# Altium footprint library ST-Microelectronics Footprints.PcbLib: 320 footprints (part 3 of 20)
Each footprint in its own frame and in the unit in brackets; x right, y up, seen from the top. Pads: shape width x height; smd on the part's side, far side on the other; paste and mask are expansions set on the pad; w line width, h text height; cw(c..) or ccw(c..) is an arc to the next point about the centre after c.
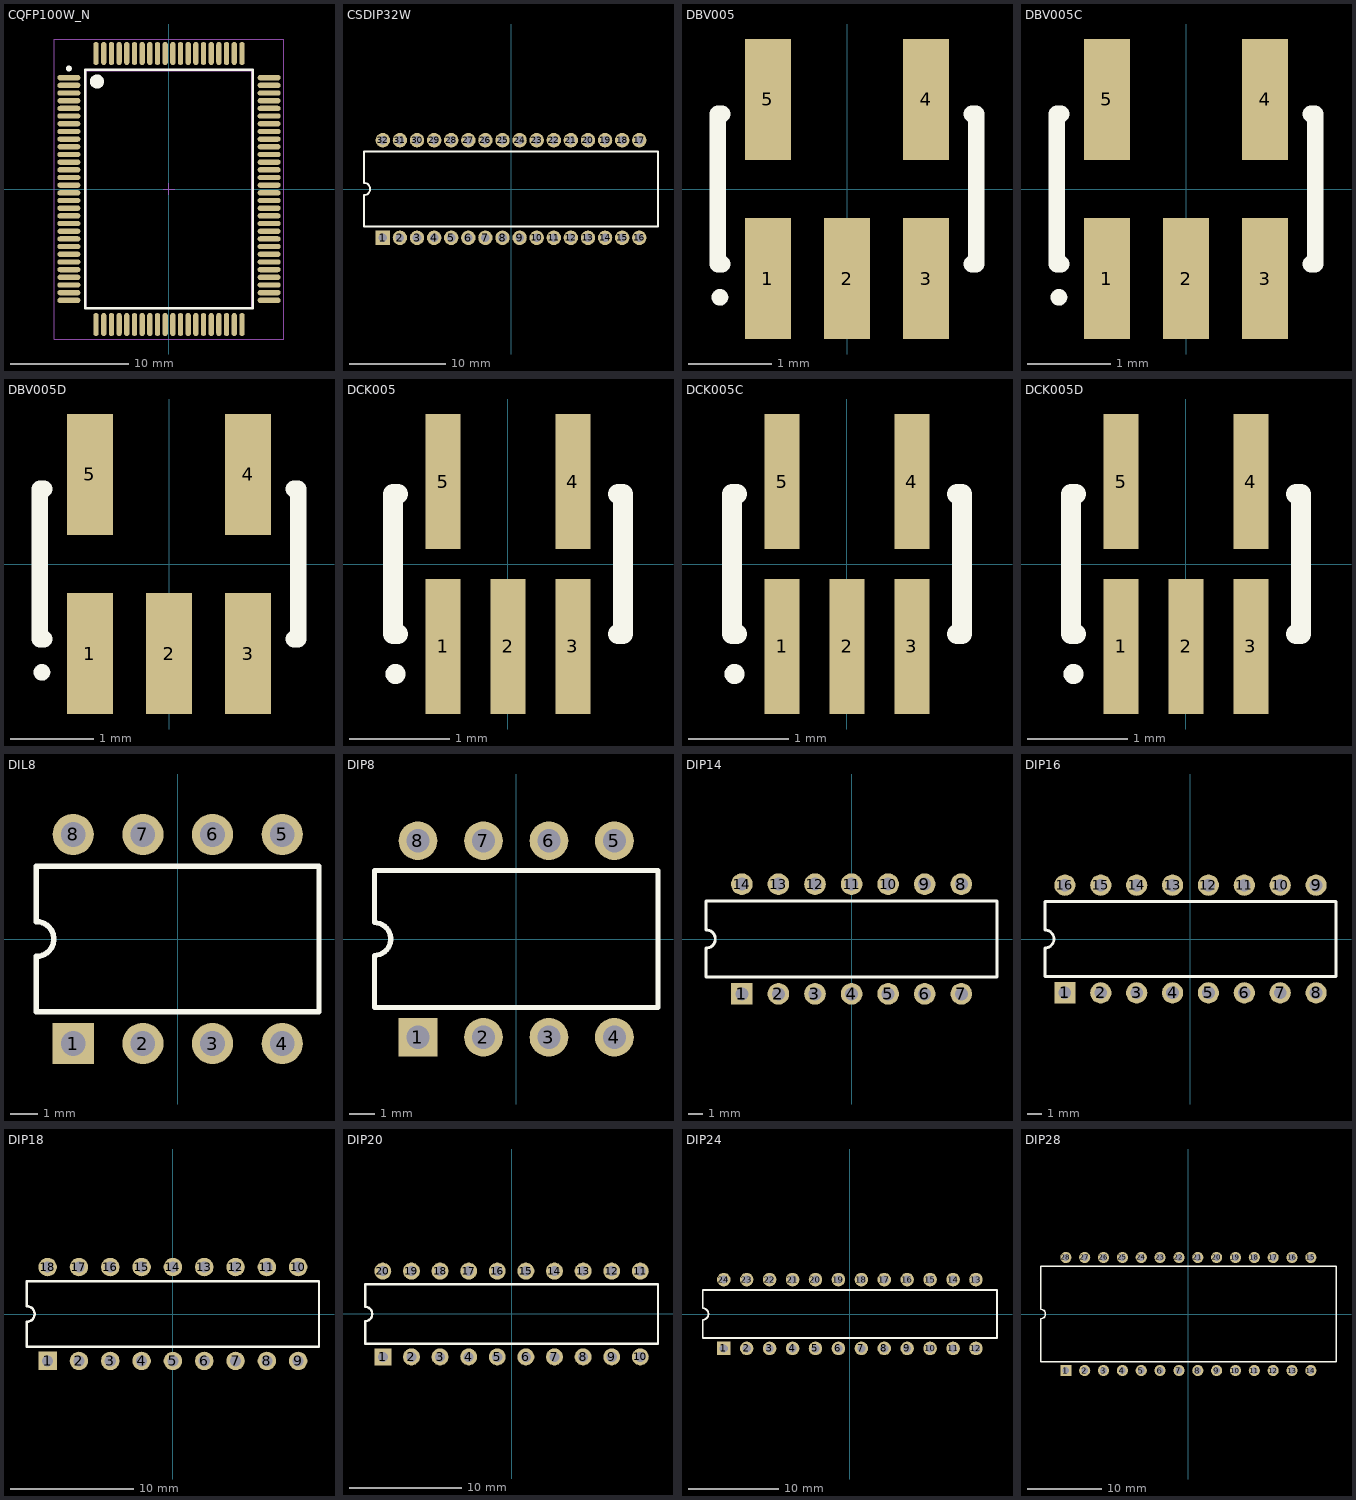
[diagram p2: the footprints below, top view; thin cyan lines are the x and y axes]

## CQFP100W_N [mm] "100-Pin Ceramic Quad Flat Pack Rectangular 0.65 mm Pitch, IPC Medium Density"
height 3.24
pads (100):
  oval 1.95x0.45 smd: 1(-8.475,9.425) 2(-8.475,8.775) 3(-8.475,8.125) 4(-8.475,7.475) 5(-8.475,6.825) 6(-8.475,6.175) 7(-8.475,5.525) 8(-8.475,4.875) 9(-8.475,4.225) 10(-8.475,3.575) 11(-8.475,2.925) 12(-8.475,2.275) 13(-8.475,1.625) 14(-8.475,0.975) 15(-8.475,0.325) 16(-8.475,-0.325) 17(-8.475,-0.975) 18(-8.475,-1.625) 19(-8.475,-2.275) 20(-8.475,-2.925) 21(-8.475,-3.575) 22(-8.475,-4.225) 23(-8.475,-4.875) 24(-8.475,-5.525) 25(-8.475,-6.175) 26(-8.475,-6.825) 27(-8.475,-7.475) 28(-8.475,-8.125) 29(-8.475,-8.775) 30(-8.475,-9.425) 51(8.475,-9.425) 52(8.475,-8.775) 53(8.475,-8.125) 54(8.475,-7.475) 55(8.475,-6.825) 56(8.475,-6.175) 57(8.475,-5.525) 58(8.475,-4.875) 59(8.475,-4.225) 60(8.475,-3.575) 61(8.475,-2.925) 62(8.475,-2.275) 63(8.475,-1.625) 64(8.475,-0.975) 65(8.475,-0.325) 66(8.475,0.325) 67(8.475,0.975) 68(8.475,1.625) 69(8.475,2.275) 70(8.475,2.925) 71(8.475,3.575) 72(8.475,4.225) 73(8.475,4.875) 74(8.475,5.525) 75(8.475,6.175) 76(8.475,6.825) 77(8.475,7.475) 78(8.475,8.125) 79(8.475,8.775) 80(8.475,9.425)
  oval 0.45x1.95 smd: 31(-6.175,-11.475) 32(-5.525,-11.475) 33(-4.875,-11.475) 34(-4.225,-11.475) 35(-3.575,-11.475) 36(-2.925,-11.475) 37(-2.275,-11.475) 38(-1.625,-11.475) 39(-0.975,-11.475) 40(-0.325,-11.475) 41(0.325,-11.475) 42(0.975,-11.475) 43(1.625,-11.475) 44(2.275,-11.475) 45(2.925,-11.475) 46(3.575,-11.475) 47(4.225,-11.475) 48(4.875,-11.475) 49(5.525,-11.475) 50(6.175,-11.475) 81(6.175,11.475) 82(5.525,11.475) 83(4.875,11.475) 84(4.225,11.475) 85(3.575,11.475) 86(2.925,11.475) 87(2.275,11.475) 88(1.625,11.475) 89(0.975,11.475) 90(0.325,11.475) 91(-0.325,11.475) 92(-0.975,11.475) 93(-1.625,11.475) 94(-2.275,11.475) 95(-2.925,11.475) 96(-3.575,11.475) 97(-4.225,11.475) 98(-4.875,11.475) 99(-5.525,11.475) 100(-6.175,11.475)
Top Overlay:
  circle w0.25: c-8.475,10.2 r0.125
  circle w0.6: c-6.1,9.1 r0.3
  lines w0.2: -7.1,-10.1 -7.1,10.1 7.1,10.1 7.1,-10.1 -7.1,-10.1
Mechanical 13:
  circle w0.1: c-6.1,9.1 r0.5
  lines w0.1: -7,-10 -7,10 7,10 7,-10 -7,-10
Mechanical 15:
  lines w0.1: -0.5,0 0.5,0 ; 0,-0.5 0,0.5 ; -9.7,-12.7 -9.7,12.7 9.7,12.7 9.7,-12.7 -9.7,-12.7
3D body: height 3.24, standoff 0, extent -7,-10 7,10

## CSDIP32W [mm] "DIP, Ceramic, Shrink; 32 Leads; Row Spacing 10.16 mm; Pitch 1.78 mm"
height 4.75
pads (32):
  rect 1.5x1.5 hole 0.9: 1(-13.35,-5.08)
  round 1.5 hole 0.9: 2(-11.57,-5.08) 3(-9.79,-5.08) 4(-8.01,-5.08) 5(-6.23,-5.08) 6(-4.45,-5.08) 7(-2.67,-5.08) 8(-0.89,-5.08) 9(0.89,-5.08) 10(2.67,-5.08) 11(4.45,-5.08) 12(6.23,-5.08) 13(8.01,-5.08) 14(9.79,-5.08) 15(11.57,-5.08) 16(13.35,-5.08) 17(13.35,5.08) 18(11.57,5.08) 19(9.79,5.08) 20(8.01,5.08) 21(6.23,5.08) 22(4.45,5.08) 23(2.67,5.08) 24(0.89,5.08) 25(-0.89,5.08) 26(-2.67,5.08) 27(-4.45,5.08) 28(-6.23,5.08) 29(-8.01,5.08) 30(-9.79,5.08) 31(-11.57,5.08) 32(-13.35,5.08)
Top Overlay:
  lines w0.2: -15.3,-3.9 -15.3,-0.635 ccw(c-15.3,0) -15.3,0.635 -15.3,3.9 15.3,3.9 15.3,-3.9 -15.3,-3.9

## DBV005 [mm] "SOT-23/SC-74A; 5 Leads; Body 3 x 3 mm, inc. leads (LxW max)"
height 1.45
pads (5):
  rect 0.55x1.45 smd: 1(-0.95,-1.075) 2(0,-1.075) 3(0.95,-1.075) 4(0.95,1.075) 5(-0.95,1.075)
Top Overlay:
  circle w0.1: c-1.525,-1.3 r0.05
  lines w0.2: -1.5,-0.9 -1.55,-0.9 -1.55,0.9 -1.5,0.9 ; 1.5,-0.9 1.55,-0.9 1.55,0.9 1.5,0.9

## DBV005C [mm] "SOT-23/SC-74A; 5 Leads; Body 3 x 3 mm, inc. leads (LxW max)"
height 1.45
pads (5):
  rect 0.55x1.45 smd: 1(-0.95,-1.075) 2(0,-1.075) 3(0.95,-1.075) 4(0.95,1.075) 5(-0.95,1.075)
Top Overlay:
  circle w0.1: c-1.525,-1.3 r0.05
  lines w0.2: -1.5,-0.9 -1.55,-0.9 -1.55,0.9 -1.5,0.9 ; 1.5,-0.9 1.55,-0.9 1.55,0.9 1.5,0.9

## DBV005D [mm] "SOT-23/SC-74A; 5 Leads; Body 3 x 3 mm, inc. leads (LxW max)"
height 1.45
pads (5):
  rect 0.55x1.45 smd: 1(-0.95,-1.075) 2(0,-1.075) 3(0.95,-1.075) 4(0.95,1.075) 5(-0.95,1.075)
Top Overlay:
  circle w0.1: c-1.525,-1.3 r0.05
  lines w0.2: -1.5,-0.9 -1.55,-0.9 -1.55,0.9 -1.5,0.9 ; 1.5,-0.9 1.55,-0.9 1.55,0.9 1.5,0.9

## DCK005 [mm] "SOT-353/SC-88A; 5 Leads; Body 2.2 x 2.3 mm, inc. leads (LxW max)"
height 1.1
pads (5):
  rect 0.35x1.35 smd: 1(-0.65,-0.825) 2(0,-0.825) 3(0.65,-0.825) 4(0.65,0.825) 5(-0.65,0.825)
Top Overlay:
  circle w0.1: c-1.125,-1.1 r0.05
  lines w0.2: -1.1,-0.7 -1.15,-0.7 -1.15,0.7 -1.1,0.7 ; 1.1,-0.7 1.15,-0.7 1.15,0.7 1.1,0.7

## DCK005C [mm] "SOT-353/SC-88A; 5 Leads; Body 2.2 x 2.3 mm, inc. leads (LxW max)"
height 1.1
pads (5):
  rect 0.35x1.35 smd: 1(-0.65,-0.825) 2(0,-0.825) 3(0.65,-0.825) 4(0.65,0.825) 5(-0.65,0.825)
Top Overlay:
  circle w0.1: c-1.125,-1.1 r0.05
  lines w0.2: -1.1,-0.7 -1.15,-0.7 -1.15,0.7 -1.1,0.7 ; 1.1,-0.7 1.15,-0.7 1.15,0.7 1.1,0.7

## DCK005D [mm] "SOT-353/SC-88A; 5 Leads; Body 2.2 x 2.3 mm, inc. leads (LxW max)"
height 1.1
pads (5):
  rect 0.35x1.35 smd: 1(-0.65,-0.825) 2(0,-0.825) 3(0.65,-0.825) 4(0.65,0.825) 5(-0.65,0.825)
Top Overlay:
  circle w0.1: c-1.125,-1.1 r0.05
  lines w0.2: -1.1,-0.7 -1.15,-0.7 -1.15,0.7 -1.1,0.7 ; 1.1,-0.7 1.15,-0.7 1.15,0.7 1.1,0.7

## DIL8 [mm] "DIP; 8 Leads; Row Spacing 7.62 mm; Pitch 2.54 mm"
height 5.1
pads (8):
  rect 1.5x1.5 hole 0.9: 1(-3.81,-3.81)
  round 1.5 hole 0.9: 2(-1.27,-3.81) 3(1.27,-3.81) 4(3.81,-3.81) 5(3.81,3.81) 6(1.27,3.81) 7(-1.27,3.81) 8(-3.81,3.81)
Top Overlay:
  lines w0.2: -5.15,-2.65 -5.15,-0.635 ccw(c-5.15,0) -5.15,0.635 -5.15,2.65 5.15,2.65 5.15,-2.65 -5.15,-2.65

## DIP8 [mm] "DIP; 8 Leads; Row Spacing 7.62 mm; Pitch 2.54 mm"
height 5.08
pads (8):
  rect 1.5x1.5 hole 0.9: 1(-3.81,-3.81)
  round 1.5 hole 0.9: 2(-1.27,-3.81) 3(1.27,-3.81) 4(3.81,-3.81) 5(3.81,3.81) 6(1.27,3.81) 7(-1.27,3.81) 8(-3.81,3.81)
Top Overlay:
  lines w0.2: -5.5,-2.65 -5.5,-0.635 ccw(c-5.5,0) -5.5,0.635 -5.5,2.65 5.5,2.65 5.5,-2.65 -5.5,-2.65

## DIP14 [mm] "DIP; 14 Leads; Row Spacing 7.62 mm; Pitch 2.54 mm"
height 5.1
pads (14):
  rect 1.5x1.5 hole 0.9: 1(-7.62,-3.81)
  round 1.5 hole 0.9: 2(-5.08,-3.81) 3(-2.54,-3.81) 4(0,-3.81) 5(2.54,-3.81) 6(5.08,-3.81) 7(7.62,-3.81) 8(7.62,3.81) 9(5.08,3.81) 10(2.54,3.81) 11(0,3.81) 12(-2.54,3.81) 13(-5.08,3.81) 14(-7.62,3.81)
Top Overlay:
  lines w0.2: -10.1,-2.65 -10.1,-0.635 ccw(c-10.1,0) -10.1,0.635 -10.1,2.65 10.1,2.65 10.1,-2.65 -10.1,-2.65

## DIP16 [mm] "DIP; 16 Leads; Row Spacing 7.62 mm; Pitch 2.54 mm"
height 5.1
pads (16):
  rect 1.5x1.5 hole 0.9: 1(-8.89,-3.81)
  round 1.5 hole 0.9: 2(-6.35,-3.81) 3(-3.81,-3.81) 4(-1.27,-3.81) 5(1.27,-3.81) 6(3.81,-3.81) 7(6.35,-3.81) 8(8.89,-3.81) 9(8.89,3.81) 10(6.35,3.81) 11(3.81,3.81) 12(1.27,3.81) 13(-1.27,3.81) 14(-3.81,3.81) 15(-6.35,3.81) 16(-8.89,3.81)
Top Overlay:
  lines w0.2: -10.3,-2.65 -10.3,-0.635 ccw(c-10.3,0) -10.3,0.635 -10.3,2.65 10.3,2.65 10.3,-2.65 -10.3,-2.65

## DIP18 [mm] "DIP; 18 Leads; Row Spacing 7.62 mm; Pitch 2.54 mm"
height 3.93
pads (18):
  rect 1.5x1.5 hole 0.9: 1(-10.16,-3.81)
  round 1.5 hole 0.9: 2(-7.62,-3.81) 3(-5.08,-3.81) 4(-2.54,-3.81) 5(0,-3.81) 6(2.54,-3.81) 7(5.08,-3.81) 8(7.62,-3.81) 9(10.16,-3.81) 10(10.16,3.81) 11(7.62,3.81) 12(5.08,3.81) 13(2.54,3.81) 14(0,3.81) 15(-2.54,3.81) 16(-5.08,3.81) 17(-7.62,3.81) 18(-10.16,3.81)
Top Overlay:
  lines w0.2: -11.85,-2.65 11.85,-2.65 11.85,2.65 -11.85,2.65 -11.85,0.635 cw(c-11.85,0) -11.85,-0.635 -11.85,-2.65

## DIP20 [mm] "DIP; 20 Leads; Row Spacing 7.62 mm; Pitch 2.54 mm"
height 3.93
pads (20):
  rect 1.5x1.5 hole 0.9: 1(-11.43,-3.81)
  round 1.5 hole 0.9: 2(-8.89,-3.81) 3(-6.35,-3.81) 4(-3.81,-3.81) 5(-1.27,-3.81) 6(1.27,-3.81) 7(3.81,-3.81) 8(6.35,-3.81) 9(8.89,-3.81) 10(11.43,-3.81) 11(11.43,3.81) 12(8.89,3.81) 13(6.35,3.81) 14(3.81,3.81) 15(1.27,3.81) 16(-1.27,3.81) 17(-3.81,3.81) 18(-6.35,3.81) 19(-8.89,3.81) 20(-11.43,3.81)
Top Overlay:
  lines w0.2: -13,-2.65 -13,-0.635 ccw(c-13,0) -13,0.635 -13,2.65 13,2.65 13,-2.65 -13,-2.65

## DIP24 [mm] "DIP; 24 Leads; Row Spacing 7.62 mm; Pitch 2.54 mm"
height 4.32
pads (24):
  rect 1.5x1.5 hole 0.9: 1(-13.97,-3.81)
  round 1.5 hole 0.9: 2(-11.43,-3.81) 3(-8.89,-3.81) 4(-6.35,-3.81) 5(-3.81,-3.81) 6(-1.27,-3.81) 7(1.27,-3.81) 8(3.81,-3.81) 9(6.35,-3.81) 10(8.89,-3.81) 11(11.43,-3.81) 12(13.97,-3.81) 13(13.97,3.81) 14(11.43,3.81) 15(8.89,3.81) 16(6.35,3.81) 17(3.81,3.81) 18(1.27,3.81) 19(-1.27,3.81) 20(-3.81,3.81) 21(-6.35,3.81) 22(-8.89,3.81) 23(-11.43,3.81) 24(-13.97,3.81)
Top Overlay:
  lines w0.2: -16.3,-2.65 16.3,-2.65 16.3,2.65 -16.3,2.65 -16.3,0.635 cw(c-16.3,0) -16.3,-0.635 -16.3,-2.65

## DIP28 [mm] "DIP; 28 Leads; Row Spacing 15.24 mm; Pitch 2.54 mm"
height 6.35
pads (28):
  rect 1.5x1.5 hole 0.9: 1(-16.51,-7.62)
  round 1.5 hole 0.9: 2(-13.97,-7.62) 3(-11.43,-7.62) 4(-8.89,-7.62) 5(-6.35,-7.62) 6(-3.81,-7.62) 7(-1.27,-7.62) 8(1.27,-7.62) 9(3.81,-7.62) 10(6.35,-7.62) 11(8.89,-7.62) 12(11.43,-7.62) 13(13.97,-7.62) 14(16.51,-7.62) 15(16.51,7.62) 16(13.97,7.62) 17(11.43,7.62) 18(8.89,7.62) 19(6.35,7.62) 20(3.81,7.62) 21(1.27,7.62) 22(-1.27,7.62) 23(-3.81,7.62) 24(-6.35,7.62) 25(-8.89,7.62) 26(-11.43,7.62) 27(-13.97,7.62) 28(-16.51,7.62)
Top Overlay:
  lines w0.2: -19.9,-6.45 -19.9,-0.635 ccw(c-19.9,0) -19.9,0.635 -19.9,6.45 19.9,6.45 19.9,-6.45 -19.9,-6.45